# EAGLE library part NOIP2SN1300A (library MyCMOSsensor)
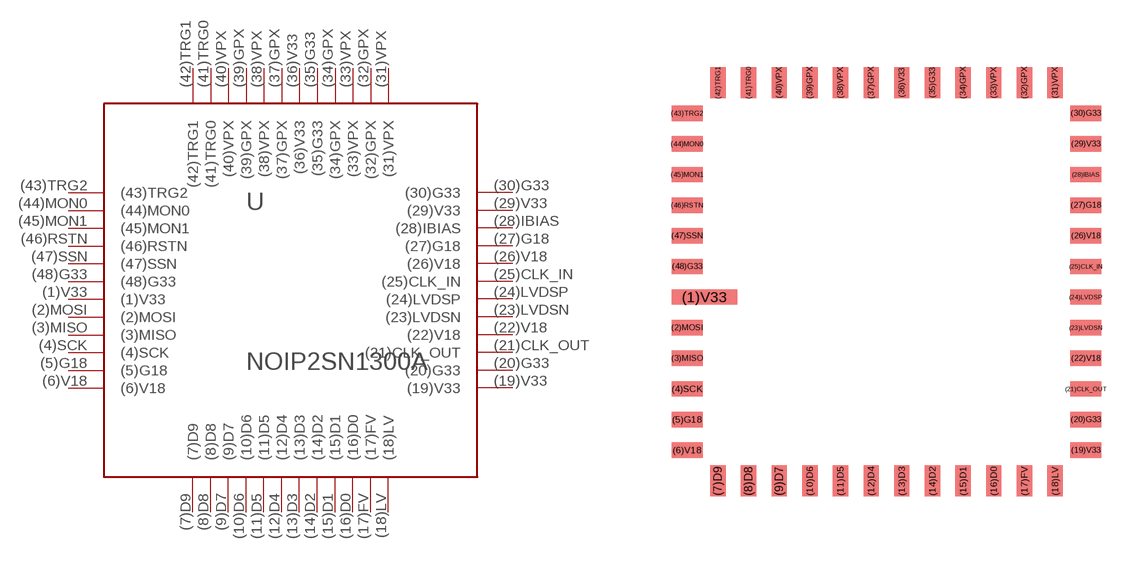
[diagram p0: symbol with the pads of NOIP2SN1300A; footprint NOIP2SN1300A]

Designator prefix -

## NOIP2SN1300A  [NOIP2SN1300A]
(1)V33  (1)V33
(2)MOSI  (2)MOSI
(3)MISO  (3)MISO
(4)SCK  (4)SCK
(5)G18  (5)G18
(6)V18  (6)V18
(7)D9  (7)D9
(8)D8  (8)D8
(9)D7  (9)D7
(10)D6  (10)D6
(11)D5  (11)D5
(12)D4  (12)D4
(13)D3  (13)D3
(14)D2  (14)D2
(15)D1  (15)D1
(16)D0  (16)D0
(17)FV  (17)FV
(18)LV  (18)LV
(19)V33  (19)V33
(20)G33  (20)G33
(21)CLK_OUT  (21)CLK_OUT
(22)V18  (22)V18
(23)LVDSN  (23)LVDSN
(24)LVDSP  (24)LVDSP
(25)CLK_IN  (25)CLK_IN
(26)V18  (26)V18
(27)G18  (27)G18
(28)IBIAS  (28)IBIAS
(29)V33  (29)V33
(30)G33  (30)G33
(31)VPX  (31)VPX
(32)GPX  (32)GPX
(33)VPX  (33)VPX
(34)GPX  (34)GPX
(35)G33  (35)G33
(36)V33  (36)V33
(37)GPX  (37)GPX
(38)VPX  (38)VPX
(39)GPX  (39)GPX
(40)VPX  (40)VPX
(41)TRG0  (41)TRG0
(42)TRG1  (42)TRG1
(43)TRG2  (43)TRG2
(44)MON0  (44)MON0
(45)MON1  (45)MON1
(46)RSTN  (46)RSTN
(47)SSN  (47)SSN
(48)G33  (48)G33

## Footprint NOIP2SN1300A (pad centres in mm)
smd 2.159 x 0.508: (1)V33 -5.524,0
smd 1.021 x 0.508: (2)MOSI -6.096,-1.016; (3)MISO -6.096,-2.032; (4)SCK -6.096,-3.048; (5)G18 -6.096,-4.064; (6)V18 -6.096,-5.08; (19)V33 7.112,-5.08; (20)G33 7.112,-4.064; (21)CLK_OUT 7.112,-3.048; (22)V18 7.112,-2.032; (23)LVDSN 7.112,-1.016; (24)LVDSP 7.112,0; (25)CLK_IN 7.112,1.016; (26)V18 7.112,2.032; (27)G18 7.112,3.048; (28)IBIAS 7.112,4.064; (29)V33 7.112,5.08; (30)G33 7.112,6.096; (43)TRG2 -6.096,6.096; (44)MON0 -6.096,5.08; (45)MON1 -6.096,4.064; (46)RSTN -6.096,3.048; (47)SSN -6.096,2.032; (48)G33 -6.096,1.016
smd 0.508 x 1.021: (7)D9 -5.08,-6.096; (8)D8 -4.064,-6.096; (9)D7 -3.048,-6.096; (10)D6 -2.032,-6.096; (11)D5 -1.016,-6.096; (12)D4 0,-6.096; (13)D3 1.016,-6.096; (14)D2 2.032,-6.096; (15)D1 3.048,-6.096; (16)D0 4.064,-6.096; (17)FV 5.08,-6.096; (18)LV 6.096,-6.096; (31)VPX 6.096,7.112; (32)GPX 5.08,7.112; (33)VPX 4.064,7.112; (34)GPX 3.048,7.112; (35)G33 2.032,7.112; (36)V33 1.016,7.112; (37)GPX 0,7.112; (38)VPX -1.016,7.112; (39)GPX -2.032,7.112; (40)VPX -3.048,7.112; (41)TRG0 -4.064,7.112; (42)TRG1 -5.08,7.112